# EAGLE library part HEF4894 (library synthdiy)
12-stage shift-and-store register LED driver
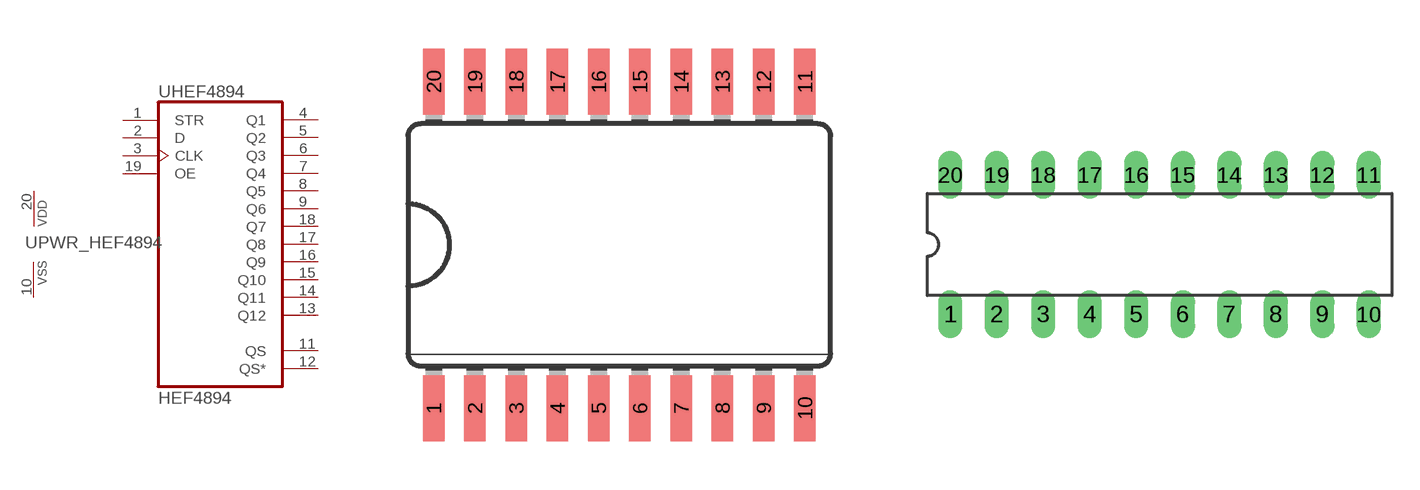
[diagram p20: symbol with the pads of SO20W; footprints SO20W, DIL20]

Designator prefix -; gates HEF4894=HEF4894 PWR_HEF4894=PWRN

## HEF4894BT  [SO20W]
1  HEF4894:STR  in
2  HEF4894:D  in
3  HEF4894:CLK  in
4  HEF4894:Q1  out
5  HEF4894:Q2  out
6  HEF4894:Q3  out
7  HEF4894:Q4  out
8  HEF4894:Q5  out
9  HEF4894:Q6  out
10  PWR_HEF4894:VSS  pwr
11  HEF4894:QS  out
12  HEF4894:QS*  out
13  HEF4894:Q12  out
14  HEF4894:Q11  out
15  HEF4894:Q10  out
16  HEF4894:Q9  out
17  HEF4894:Q8  out
18  HEF4894:Q7  out
19  HEF4894:OE  in
20  PWR_HEF4894:VDD  pwr

## HEF4894BP  [DIL20]
Pads as for SO20W

## Footprint SO20W (pad centres in mm)
smd 0.66 x 2.032: 1 -5.715,-5.029; 2 -4.445,-5.029; 3 -3.175,-5.029; 4 -1.905,-5.029; 5 -0.635,-5.029; 6 0.635,-5.029; 7 1.905,-5.029; 8 3.175,-5.029; 9 4.445,-5.029; 10 5.715,-5.029; 11 5.715,5.029; 12 4.445,5.029; 13 3.175,5.029; 14 1.905,5.029; 15 0.635,5.029; 16 -0.635,5.029; 17 -1.905,5.029; 18 -3.175,5.029; 19 -4.445,5.029; 20 -5.715,5.029

## Footprint DIL20 (pad centres in mm)
Dual In Line 20
drill 0.813 long: 1 -11.43,-3.81; 2 -8.89,-3.81; 3 -6.35,-3.81; 4 -3.81,-3.81; 5 -1.27,-3.81; 6 1.27,-3.81; 7 3.81,-3.81; 8 6.35,-3.81; 9 8.89,-3.81; 10 11.43,-3.81; 11 11.43,3.81; 12 8.89,3.81; 13 6.35,3.81; 14 3.81,3.81; 15 1.27,3.81; 16 -1.27,3.81; 17 -3.81,3.81; 18 -6.35,3.81; 19 -8.89,3.81; 20 -11.43,3.81